# EAGLE library part SAMACSYS_PARTS_LAN7800-I_VSX (library ExportCompute Module)
USB Interface IC USB3.1 Gen1 to 10/100/1000 Ethernet Bridge, Industrial temp. Source: Datasheet <http://www.microchip.com/mymicrochip/filehandler.aspx?ddocname=en588570>
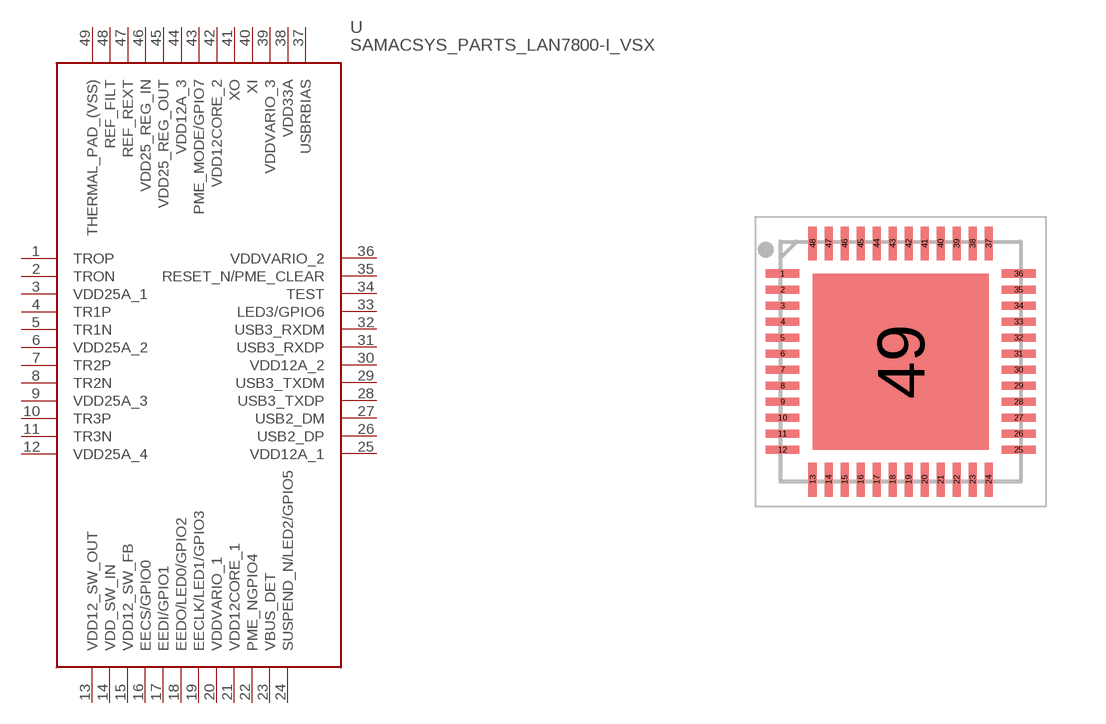
[diagram p16: symbol with the pads of SAMACSYS_PARTS_QFN40P600X600X90-49N; footprint SAMACSYS_PARTS_QFN40P600X600X90-49N]

Designator prefix U

## SAMACSYS_PARTS_LAN7800-I_VSX (DIGIKEY: LAN7800-I/VSX-ND; MANUFACTURER: Microchip; MPN: LAN7800-I/VSX)  [SAMACSYS_PARTS_QFN40P600X600X90-49N]
1  TROP
2  TRON
3  VDD25A_1
4  TR1P
5  TR1N
6  VDD25A_2
7  TR2P
8  TR2N
9  VDD25A_3
10  TR3P
11  TR3N
12  VDD25A_4
13  VDD12_SW_OUT
14  VDD_SW_IN
15  VDD12_SW_FB
16  EECS/GPIO0
17  EEDI/GPIO1
18  EEDO/LED0/GPIO2
19  EECLK/LED1/GPIO3
20  VDDVARIO_1
21  VDD12CORE_1
22  PME_NGPIO4
23  VBUS_DET
24  SUSPEND_N/LED2/GPIO5
25  VDD12A_1
26  USB2_DP
27  USB2_DM
28  USB3_TXDP
29  USB3_TXDM
30  VDD12A_2
31  USB3_RXDP
32  USB3_RXDM
33  LED3/GPIO6
34  TEST
35  RESET_N/PME_CLEAR
36  VDDVARIO_2
37  USBRBIAS
38  VDD33A
39  VDDVARIO_3
40  XI
41  XO
42  VDD12CORE_2
43  PME_MODE/GPIO7
44  VDD12A_3
45  VDD25_REG_OUT
46  VDD25_REG_IN
47  REF_REXT
48  REF_FILT
49  THERMAL_PAD_(VSS)

## Footprint SAMACSYS_PARTS_QFN40P600X600X90-49N (pad centres in mm)
48-SFQN (6x6)
smd 0.85 x 0.2: 1 -2.95,2.2; 2 -2.95,1.8; 3 -2.95,1.4; 4 -2.95,1; 5 -2.95,0.6; 6 -2.95,0.2; 7 -2.95,-0.2; 8 -2.95,-0.6; 9 -2.95,-1; 10 -2.95,-1.4; 11 -2.95,-1.8; 12 -2.95,-2.2; 25 2.95,-2.2; 26 2.95,-1.8; 27 2.95,-1.4; 28 2.95,-1; 29 2.95,-0.6; 30 2.95,-0.2; 31 2.95,0.2; 32 2.95,0.6; 33 2.95,1; 34 2.95,1.4; 35 2.95,1.8; 36 2.95,2.2
smd 0.2 x 0.85: 13 -2.2,-2.95; 14 -1.8,-2.95; 15 -1.4,-2.95; 16 -1,-2.95; 17 -0.6,-2.95; 18 -0.2,-2.95; 19 0.2,-2.95; 20 0.6,-2.95; 21 1,-2.95; 22 1.4,-2.95; 23 1.8,-2.95; 24 2.2,-2.95; 37 2.2,2.95; 38 1.8,2.95; 39 1.4,2.95; 40 1,2.95; 41 0.6,2.95; 42 0.2,2.95; 43 -0.2,2.95; 44 -0.6,2.95; 45 -1,2.95; 46 -1.4,2.95; 47 -1.8,2.95; 48 -2.2,2.95
smd 4.4 x 4.4: 49 0,0